# Altium footprint library Semicondutores_Ftp.PcbLib: 33 footprints (part 1 of 3)
Each footprint in its own frame and in the unit in brackets; x right, y up, seen from the top. Pads: shape width x height; smd on the part's side, far side on the other; paste and mask are expansions set on the pad; w line width, h text height; cw(c..) or ccw(c..) is an arc to the next point about the centre after c.
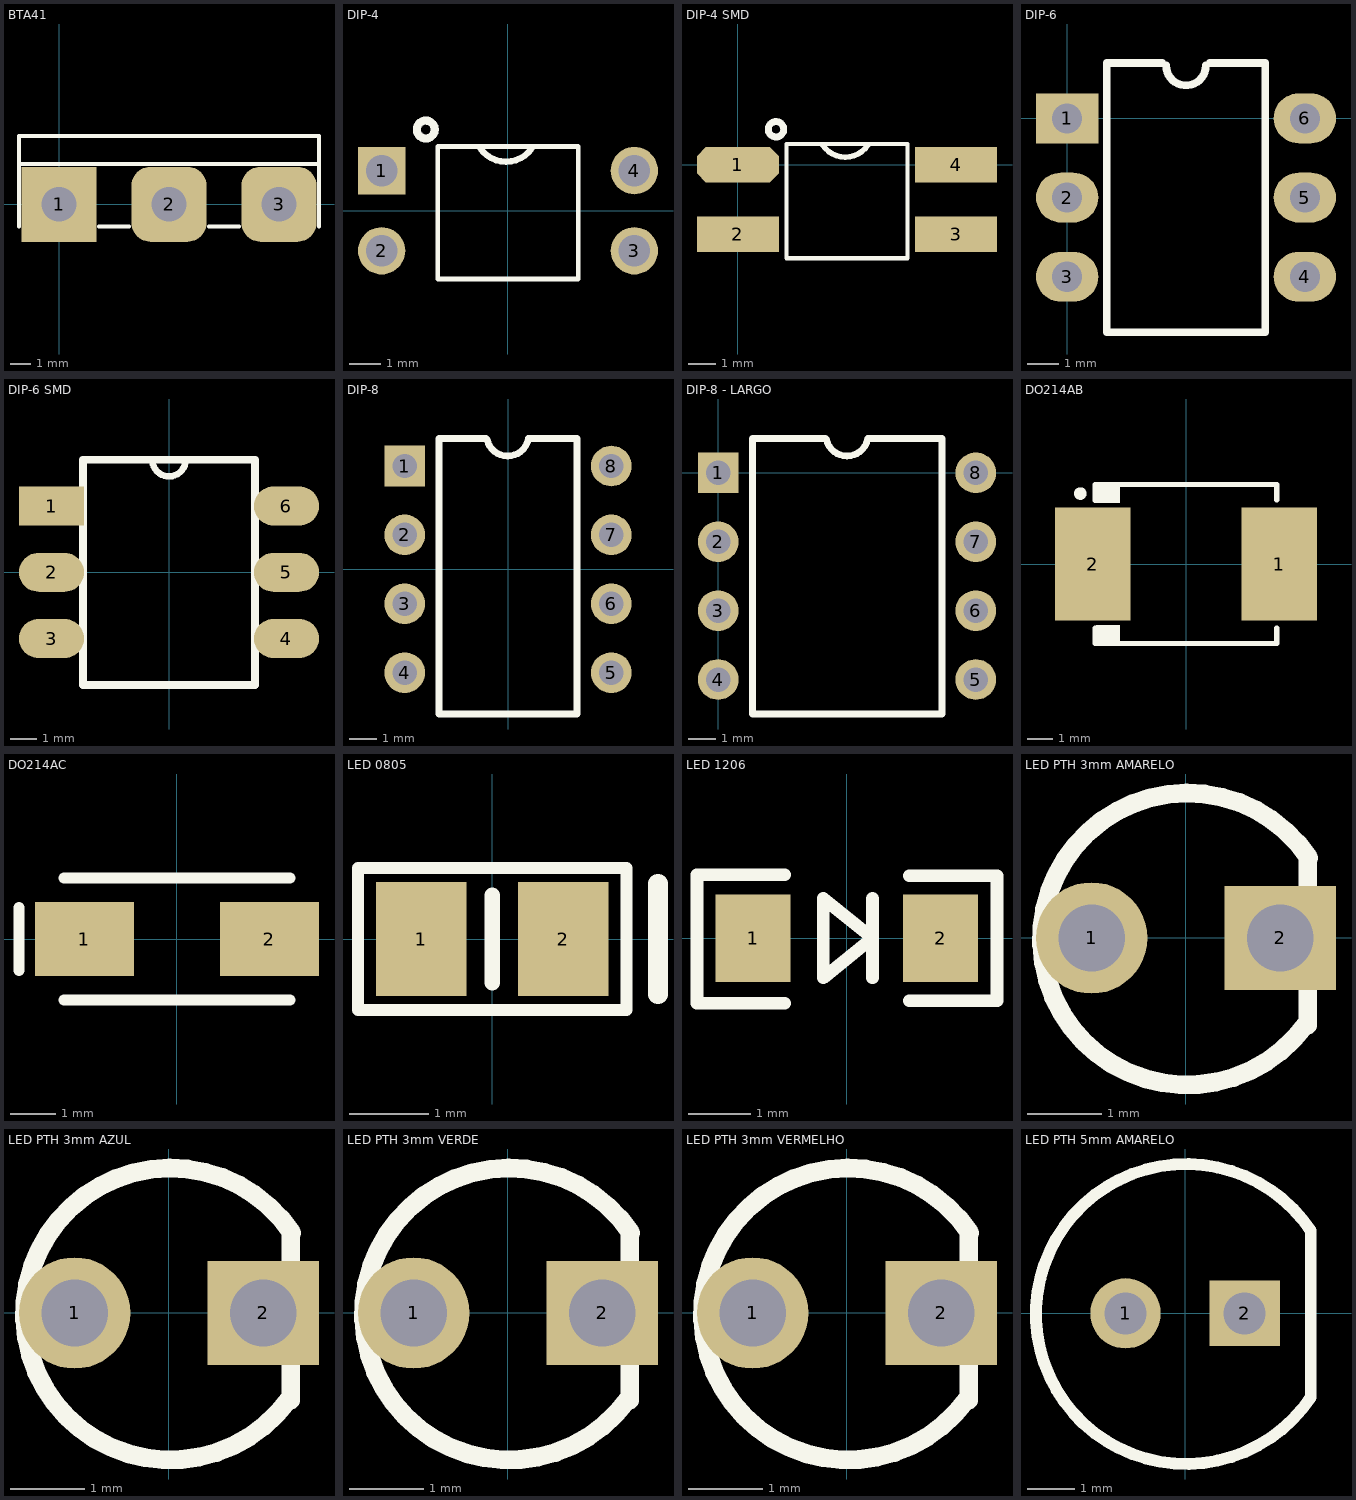
[diagram p0: the footprints below, top view; thin cyan lines are the x and y axes]

## BTA41 [mm]
pads (3):
  rect 3.75x3.75 hole 1.75: 1(0,0)
  rrect50% 3.75x3.75 hole 1.75: 2(5.5,0) 3(11,0)
Top Overlay:
  lines w0.2: -2,-1.1 -2,3.4 13,3.4 13,-1.1 ; -2,2 13,2 ; 2,-1.1 3.5,-1.1 ; 7.5,-1.1 9,-1.1
3D body: height 22.11, standoff -4.39, extent -2.286,-1.156 13.208,3.442

## DIP-4 [mm]
pads (4):
  rect 1.5x1.5 hole 1 unplated: 1(-4,1.27)
  round 1.5 hole 1 unplated: 2(-4,-1.27) 3(4,-1.27) 4(4,1.27)
Top Overlay:
  circle w0.254: c-2.603,2.57 r0.284
  lines w0.152: -2.222,-2.159 -2.222,2.032 2.223,2.032 2.223,-2.159 -2.222,-2.159
  lines w0.2: -0.888,1.99 ccw(c-0.063,2.54) 0.762,1.99
3D body: height 4.3, standoff -2.7, extent -3.94,-2.422 3.94,2.168

## DIP-4 SMD [mm]
pads (4):
  oct 3x1.3 smd: 1(0,0)
  rect 3x1.3 smd: 2(0,-2.54) 3(8,-2.54) 4(8,0)
Top Overlay:
  circle w0.254: c1.397,1.3 r0.284
  lines w0.152: 1.778,-3.429 1.778,0.762 6.223,0.762 6.223,-3.429 1.778,-3.429
  lines w0.2: 3.112,0.72 ccw(c3.937,1.27) 4.762,0.72
3D body: height 3.75, standoff -0.1, extent -1,-3.56 9,1.02

## DIP-6 [mm]
pads (6):
  rect 2x1.6 hole 0.965: 1(0,0)
  oval 2x1.6 hole 0.965: 2(0,-2.54) 3(0,-5.08) 4(7.62,-5.08) 5(7.62,-2.54) 6(7.62,0)
Top Overlay:
  lines w0.25: 3.048,1.778 1.27,1.778 1.27,-6.858 6.35,-6.858 6.35,1.778 4.572,1.778 ; 3.175,1.69 ccw(c3.81,1.69) 4.445,1.69
3D body: height 3.8, standoff -3.5, extent -0.125,-6.104 7.745,1.016

## DIP-6 SMD [mm]
pads (6):
  rect 2.5x1.5 smd: 1(-4.505,2.54)
  oval 2.5x1.5 smd: 2(-4.505,0) 3(-4.505,-2.54) 4(4.505,-2.54) 5(4.505,0) 6(4.505,2.54)
Top Overlay:
  lines w0.25: -0.635,4.259 ccw(c0,4.318) 0.637,4.298
  lines w0.3: -3.3,-4.318 3.3,-4.318 3.3,4.318 -3.3,4.318 -3.3,-4.318
3D body: height 3.82, standoff 0, extent -4.94,-3.564 4.94,3.556

## DIP-8 [mm]
pads (8):
  rect 1.5x1.5 hole 0.9: 1(-3.81,3.81)
  round 1.5 hole 0.9: 2(-3.81,1.27) 3(-3.81,-1.27) 4(-3.81,-3.81) 5(3.81,-3.81) 6(3.81,-1.27) 7(3.81,1.27) 8(3.81,3.81)
Top Overlay:
  lines w0.25: -2.54,4.826 -2.54,-5.334 2.54,-5.334 2.54,4.826 0.749,4.826 ; -0.769,4.787 ccw(c-0.013,4.953) 0.744,4.787
  lines w0.254: -2.54,4.826 -0.809,4.826
3D body: height 4.6, standoff -2.8, extent -5.05,-5.08 5.05,5.02
3D body: height 8.66, standoff 1.3, extent -3.937,-4.7 3.933,4.7

## DIP-8 - LARGO [mm]
pads (8):
  rect 1.5x1.5 hole 0.9: 1(0,0)
  round 1.5 hole 0.9: 2(0,-2.54) 3(0,-5.08) 4(0,-7.62) 5(9.5,-7.62) 6(9.5,-5.08) 7(9.5,-2.54) 8(9.5,0)
Top Overlay:
  lines w0.25: 1.27,1.27 1.27,-8.89 8.255,-8.89 8.255,1.27 5.512,1.27 ; 3.993,1.231 ccw(c4.75,1.397) 5.507,1.231
  lines w0.254: 1.27,1.27 3.954,1.27
3D body: height 4.7, standoff -2.91, extent -0.508,-9.31 9.901,1.69

## DO214AB [mm] "Diodo SMD package SMC - DO214AB"
height 2.65
pads (2):
  rect 3x4.5 smd: 1(3.7,0) 2(-3.7,0)
Top Overlay:
  circle w0.25: c-4.191,2.794 r0.125
  rectangle: -3.575,-3.125 -2.613,-2.413
  rectangle: -3.575,2.413 -2.613,3.125
  lines w0.2: -3.6,-2.54 -3.6,-3.15 3.6,-3.15 3.6,-2.54 ; -3.6,2.523 -3.6,3.15 3.6,3.15 3.6,2.54
3D body: height 1.43, standoff -1.58, extent -4.075,-3.124 4.075,3.125

## DO214AC [mm]
pads (2):
  rect 2.2x1.65 smd: 1(-2.05,0) 2(2.05,0)
Top Overlay:
  lines w0.25: -3.5,-0.7 -3.5,0.7 ; -2.5,-1.35 2.5,-1.35 ; -2.5,1.35 2.5,1.35
3D body: height 2.15, standoff -0.05, extent -2.5,-1.35 2.5,1.35

## LED 0805 [mm] "0805"
pads (2):
  rect 1.15x1.45 smd: 1(-0.9,0) 2(0.9,0)
Top Overlay:
  lines w0.152: -1.7,-0.9 -1.7,0.9 1.7,0.9 1.7,-0.9 -1.7,-0.9
  lines w0.2: 0,-0.55 0,0.55
  lines w0.25: 2.1,-0.7 2.1,0.7
3D body: height 0.81, standoff -0.01, extent -1,-0.625 1,0.625

## LED 1206 [mm] "1206"
pads (2):
  rect 1.2x1.4 smd: 1(-1.5,0) 2(1.5,0)
Top Overlay:
  lines w0.203: -2.4,-1.041 -1,-1.041 ; -2.4,-1 -2.4,1 ; -2.4,1.016 -1,1.016 ; 0.406,-0.635 0.406,0 ; 0.406,0.635 0.406,0 ; 1,-1 2.4,-1 2.4,1 1,1 ; 0.406,0 -0.381,-0.635 -0.381,0.635 0.406,0
3D body: height 1.1, standoff 0, extent -1.55,-0.793 1.65,0.807

## LED PTH 3mm AMARELO [mm] "LED PTH 3mm"
pads (2):
  round 1.5 hole 0.9: 1(-1.27,0)
  rect 1.5x1.4 hole 0.9: 2(1.27,0)
Top Overlay:
  lines w0.25: 1.642,-1.175 1.642,1.079
  lines w0.254: 1.605,-1.175 cw(c0.02,-0.014) 1.653,1.079
3D body: height 5.48, standoff -2, extent -1.664,-1.653 1.55,1.644

## LED PTH 3mm AZUL [mm] "LED PTH 3mm"
pads (2):
  round 1.5 hole 0.9: 1(-1.27,0)
  rect 1.5x1.4 hole 0.9: 2(1.27,0)
Top Overlay:
  lines w0.25: 1.642,-1.175 1.642,1.079
  lines w0.254: 1.605,-1.175 cw(c0.02,-0.014) 1.653,1.079
3D body: height 5.48, standoff -2, extent -1.664,-1.653 1.55,1.644

## LED PTH 3mm VERDE [mm] "LED PTH 3mm"
pads (2):
  round 1.5 hole 0.9: 1(-1.27,0)
  rect 1.5x1.4 hole 0.9: 2(1.27,0)
Top Overlay:
  lines w0.25: 1.642,-1.175 1.642,1.079
  lines w0.254: 1.605,-1.175 cw(c0.02,-0.014) 1.653,1.079
3D body: height 5.48, standoff -2, extent -1.664,-1.653 1.55,1.644

## LED PTH 3mm VERMELHO [mm] "LED PTH 3mm"
pads (2):
  round 1.5 hole 0.9: 1(-1.27,0)
  rect 1.5x1.4 hole 0.9: 2(1.27,0)
Top Overlay:
  lines w0.25: 1.642,-1.175 1.642,1.079
  lines w0.254: 1.605,-1.175 cw(c0.02,-0.014) 1.653,1.079
3D body: height 5.48, standoff -2, extent -1.664,-1.653 1.55,1.644

## LED PTH 5mm AMARELO [mm] "LED PTH 5mm"
pads (2):
  round 1.5 hole 0.9: 1(-1.27,0)
  rect 1.5x1.4 hole 0.9: 2(1.27,0)
Top Overlay:
  lines w0.25: 2.68,-1.791 2.68,1.765
  lines w0.254: 2.68,1.765 ccw(c0.02,-0.014) 2.681,-1.791
3D body: height 13.24, standoff -2.2, extent -3,-3 2.5,3